# Altium integrated library Panasonic Relays Power Relays (Over 2A).IntLib: 286 symbols (part 3 of 8)
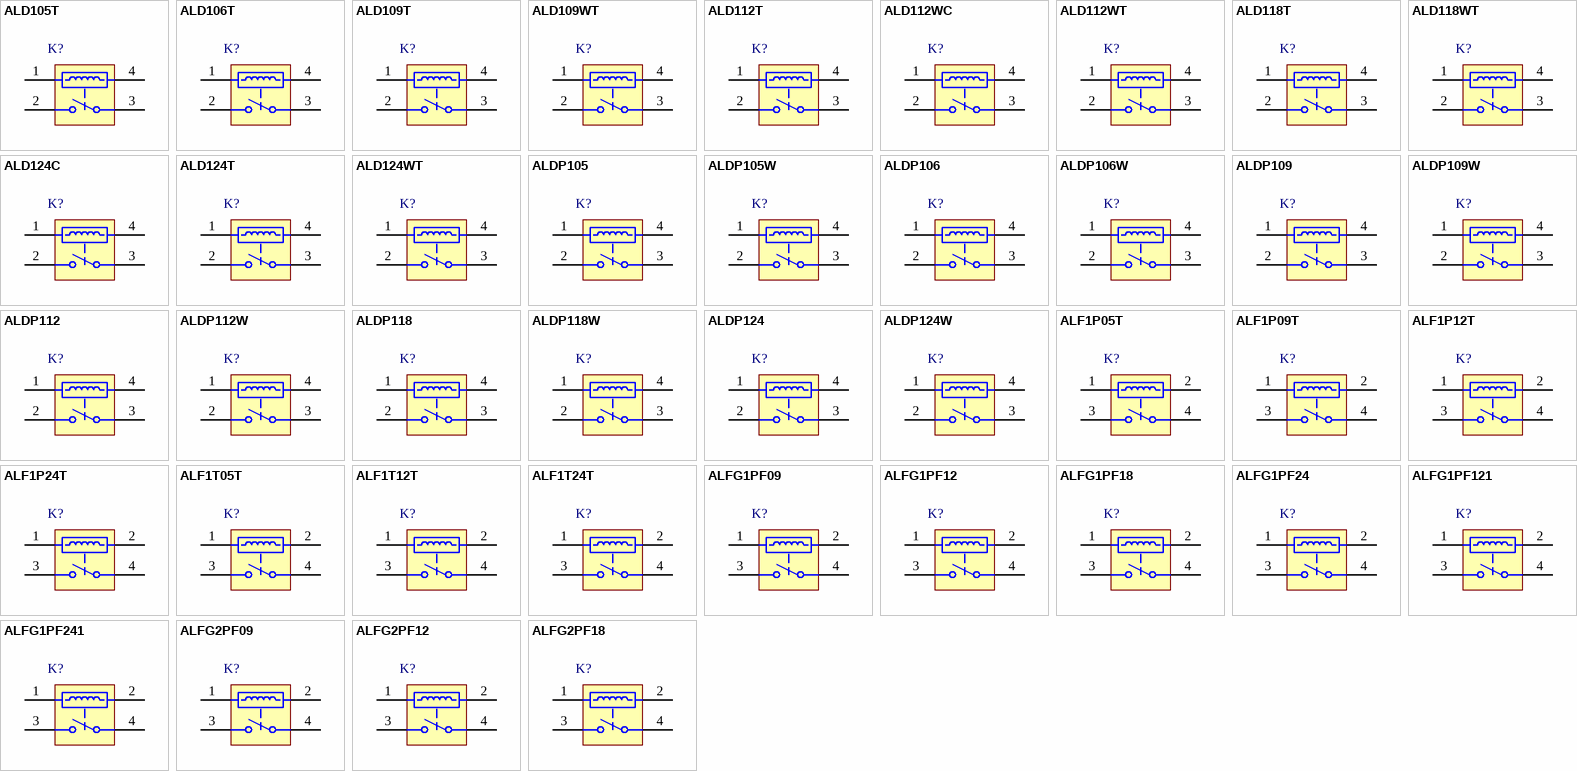
[diagram p9: symbols ALD105T to ALFG2PF18]

## ALFG2PF18
designator K?
LF-G Relays, 18 V Coil Voltage, 1400 mW Nominal Operating Power, -40 to 85 degC, 4-Pin LF-G, Carton, Case, RoHS; Manufacturer: Panasonic; PartNumber: ALFG2PF18; Coil Voltage: 18 V; Electrical Life: 3x10^4; Max Switching Current: 31 A AC; Max Switching Voltage: 250 V AC; Mechanical Life(Min.operation): 1x10^6; Nominal Operating Power: 1400 mW; Pb-Free: True; DatasheetVersion: 201402-T; PackageVersion: ASCTB196E, 02/2014; PackageReference: LF-G-4-3010x1570x2330; PackageDescription: 4-Pin Through Hole Terminal Package, Body 30.1 x 15.7 mm; Supplier 1: Mouser; Supplier Part Number 1: 769-ALFG2PF18; Supplier 2: Digi-Key; Supplier Part Number 2: 255-2639-ND; Packing: Carton, Case; RoHS: True; Series: LF-G Relays; Mounting Technology: Through Hole; ComponentLink1Description: Manufacturer URL; ComponentLink1URL: http://www3.panasonic.biz/ac/ae/index.jsp; ComponentLink2Description: Datasheet; ComponentLink2URL: http://www3.panasonic.biz/ac/e_download/control/relay/power/catalog/mech_eng_lfg.pdf?f_cd=300272; ComponentLink3Description: Package Specification; ComponentLink3URL: http://www3.panasonic.biz/ac/e_download/control/relay/power/catalog/mech_eng_lfg.pdf?f_cd=300272
footprint PNSC-LF-G-4-3010x1570x2330_V (LF-G, 4-Leads, Body 30.1x15.7mm)
pins: 1, 2, 3 NO, 4 COM

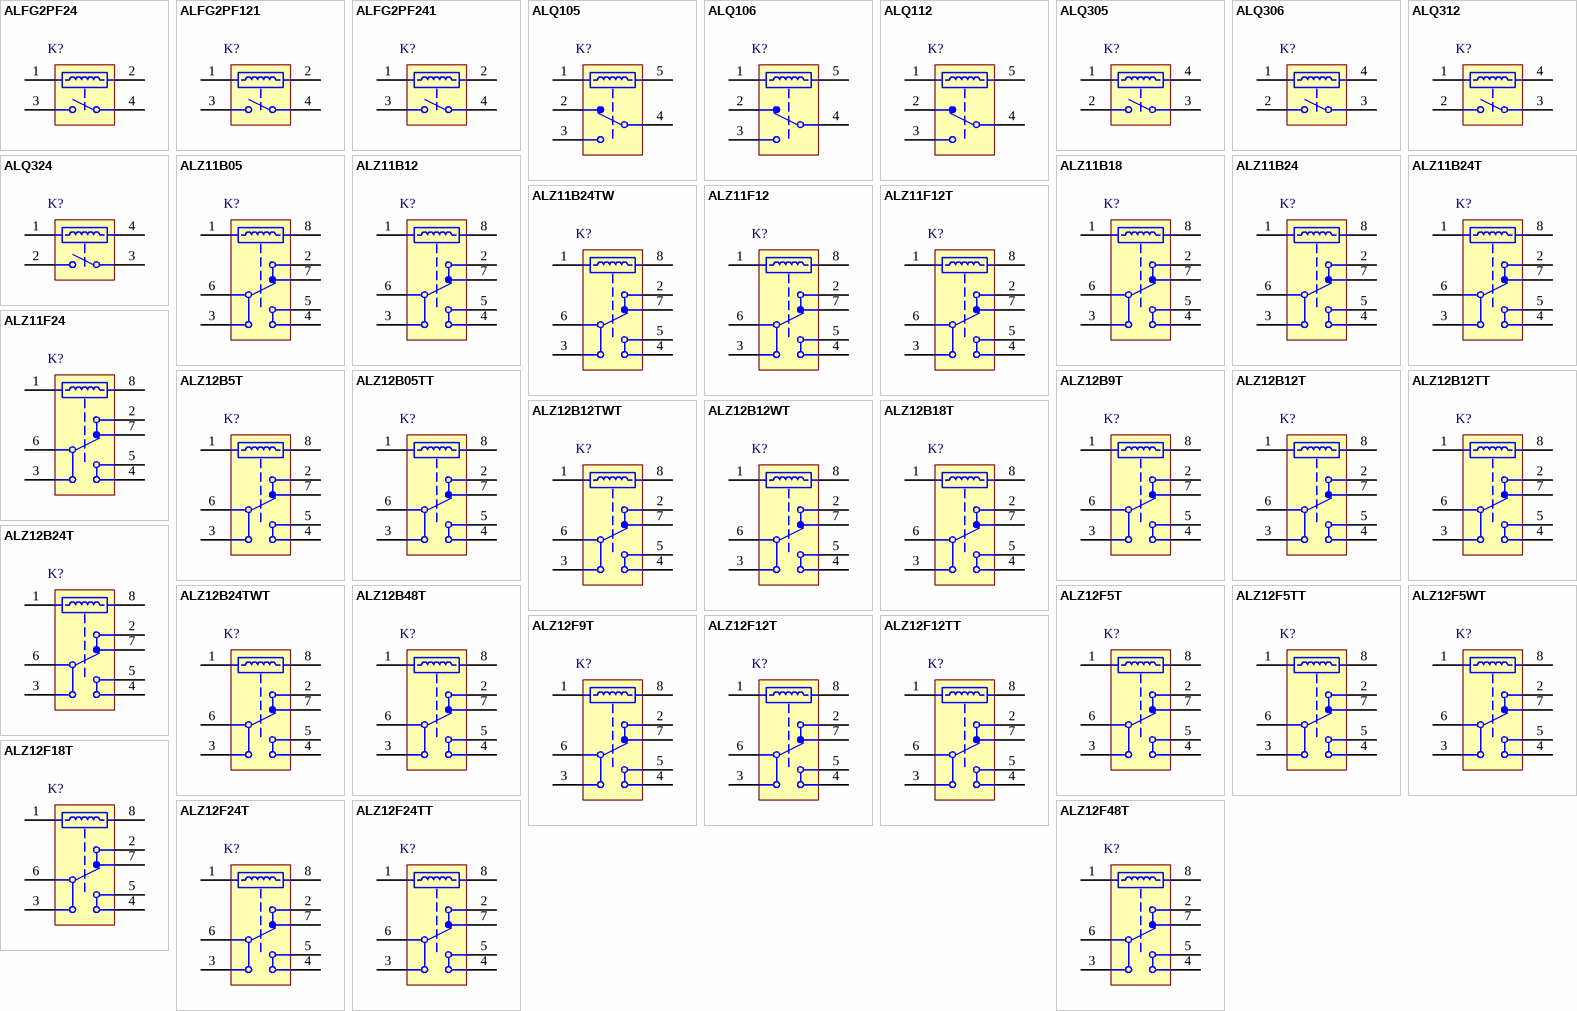
[diagram p2: symbols ALFG2PF24 to ALZ12F48T]

## ALFG2PF24
designator K?
LF-G Relays, 24 V Coil Voltage, 1400 mW Nominal Operating Power, -40 to 85 degC, 4-Pin LF-G, Carton, Case, RoHS; Manufacturer: Panasonic; PartNumber: ALFG2PF24; Coil Voltage: 24 V; Electrical Life: 3x10^4; Max Switching Current: 31 A AC; Max Switching Voltage: 250 V AC; Mechanical Life(Min.operation): 1x10^6; Nominal Operating Power: 1400 mW; Pb-Free: True; DatasheetVersion: 201402-T; PackageVersion: ASCTB196E, 02/2014; PackageReference: LF-G-4-3010x1570x2330; PackageDescription: 4-Pin Through Hole Terminal Package, Body 30.1 x 15.7 mm; Supplier 1: Mouser; Supplier Part Number 1: 769-ALFG2PF24; Supplier 2: Digi-Key; Supplier Part Number 2: 255-2640-ND; Packing: Carton, Case; RoHS: True; Series: LF-G Relays; Mounting Technology: Through Hole; ComponentLink1Description: Manufacturer URL; ComponentLink1URL: http://www3.panasonic.biz/ac/ae/index.jsp; ComponentLink2Description: Datasheet; ComponentLink2URL: http://www3.panasonic.biz/ac/e_download/control/relay/power/catalog/mech_eng_lfg.pdf?f_cd=300272; ComponentLink3Description: Package Specification; ComponentLink3URL: http://www3.panasonic.biz/ac/e_download/control/relay/power/catalog/mech_eng_lfg.pdf?f_cd=300272
footprint PNSC-LF-G-4-3010x1570x2330_V (LF-G, 4-Leads, Body 30.1x15.7mm)
pins: 1, 2, 3 NO, 4 COM

## ALFG2PF121
designator K?
LF-G Relays, 12 V Coil Voltage, 1400 mW Nominal Operating Power, -40 to 85 degC, 4-Pin LF-G, Carton, Case, RoHS; Manufacturer: Panasonic; PartNumber: ALFG2PF121; Coil Voltage: 12 V; Electrical Life: 3x10^4; Max Switching Current: 33 A AC; Max Switching Voltage: 250 V AC; Mechanical Life(Min.operation): 5x10^5; Nominal Operating Power: 1400 mW; Pb-Free: True; DatasheetVersion: 201402-T; PackageVersion: ASCTB196E, 02/2014; PackageReference: LF-G-4-3010x1570x2330; PackageDescription: 4-Pin Through Hole Terminal Package, Body 30.1 x 15.7 mm; Supplier 1: Mouser; Supplier Part Number 1: 769-ALFG2PF121; Supplier 2: Digi-Key; Supplier Part Number 2: ALFG2PF121-ND; Packing: Carton, Case; RoHS: True; Series: LF-G Relays; Mounting Technology: Through Hole; ComponentLink1Description: Manufacturer URL; ComponentLink1URL: http://www3.panasonic.biz/ac/ae/index.jsp; ComponentLink2Description: Datasheet; ComponentLink2URL: http://www3.panasonic.biz/ac/e_download/control/relay/power/catalog/mech_eng_lfg.pdf?f_cd=300272; ComponentLink3Description: Package Specification; ComponentLink3URL: http://www3.panasonic.biz/ac/e_download/control/relay/power/catalog/mech_eng_lfg.pdf?f_cd=300272
footprint PNSC-LF-G-4-3010x1570x2330_V (LF-G, 4-Leads, Body 30.1x15.7mm)
pins: 1, 2, 3 NO, 4 COM

## ALFG2PF241
designator K?
LF-G Relays, 24 V Coil Voltage, 1400 mW Nominal Operating Power, -40 to 85 degC, 4-Pin LF-G, Carton, Case, RoHS; Manufacturer: Panasonic; PartNumber: ALFG2PF241; Coil Voltage: 24 V; Electrical Life: 3x10^4; Max Switching Current: 33 A AC; Max Switching Voltage: 250 V AC; Mechanical Life(Min.operation): 5x10^5; Nominal Operating Power: 1400 mW; Pb-Free: True; DatasheetVersion: 201402-T; PackageVersion: ASCTB196E, 02/2014; PackageReference: LF-G-4-3010x1570x2330; PackageDescription: 4-Pin Through Hole Terminal Package, Body 30.1 x 15.7 mm; Supplier 1: Mouser; Supplier Part Number 1: 769-ALFG2PF241; Packing: Carton, Case; RoHS: True; Series: LF-G Relays; Mounting Technology: Through Hole; ComponentLink1Description: Manufacturer URL; ComponentLink1URL: http://www3.panasonic.biz/ac/ae/index.jsp; ComponentLink2Description: Datasheet; ComponentLink2URL: http://www3.panasonic.biz/ac/e_download/control/relay/power/catalog/mech_eng_lfg.pdf?f_cd=300272; ComponentLink3Description: Package Specification; ComponentLink3URL: http://www3.panasonic.biz/ac/e_download/control/relay/power/catalog/mech_eng_lfg.pdf?f_cd=300272
footprint PNSC-LF-G-4-3010x1570x2330_V (LF-G, 4-Leads, Body 30.1x15.7mm)
pins: 1, 2, 3 NO, 4 COM

## ALQ105
designator K?
LQ Relays, 5 V Coil Voltage, 400 mW Nominal Operating Power, -40 to 85 degC, 5-Pin LQ, Carton, Case, RoHS; Manufacturer: Panasonic; PartNumber: ALQ105; Coil Voltage: 5 V; Electrical Life: 5x10^4; Max Switching Current: 10 A (N.O.), 3 A (N.C.); Max Switching Voltage: 250 V AC; Mechanical Life(Min.operation): 1x10^7; Nominal Operating Power: 400 mW; Pb-Free: True; DatasheetVersion: 201410-T; PackageVersion: ASCTB92E, 10/2014; PackageReference: LQ-5-2000x1000x1600; PackageDescription: 5-Pin Through Hole Terminal Package, Body 20 x 10 mm; Supplier 1: Mouser; Supplier Part Number 1: 769-ALQ105; Supplier 2: Digi-Key; Supplier Part Number 2: 255-3565-ND; Packing: Carton, Case; RoHS: True; Series: LQ Relays; Mounting Technology: Through Hole; ComponentLink1Description: Manufacturer URL; ComponentLink1URL: http://www3.panasonic.biz/ac/ae/index.jsp; ComponentLink2Description: Datasheet; ComponentLink2URL: http://www3.panasonic.biz/ac/e_download/control/relay/power/catalog/mech_eng_lq.pdf?f_cd=401220; ComponentLink3Description: Package Specification; ComponentLink3URL: http://www3.panasonic.biz/ac/e_download/control/relay/power/catalog/mech_eng_lq.pdf?f_cd=401220
footprint PNSC-LQ-5-2000x1000x1600_V (LQ, 5-Leads, Body 20x10mm)
pins: 1, 2 NC, 3 NO, 4 COM, 5

## ALQ106
designator K?
LQ Relays, 6 V Coil Voltage, 400 mW Nominal Operating Power, -40 to 85 degC, 5-Pin LQ, Carton, Case, RoHS; Manufacturer: Panasonic; PartNumber: ALQ106; Coil Voltage: 6 V; Electrical Life: 5x10^4; Max Switching Current: 10 A (N.O.), 3 A (N.C.); Max Switching Voltage: 250 V AC; Mechanical Life(Min.operation): 1x10^7; Nominal Operating Power: 400 mW; Pb-Free: True; DatasheetVersion: 201410-T; PackageVersion: ASCTB92E, 10/2014; PackageReference: LQ-5-2000x1000x1600; PackageDescription: 5-Pin Through Hole Terminal Package, Body 20 x 10 mm; Supplier 1: Mouser; Supplier Part Number 1: 769-ALQ106; Supplier 2: Digi-Key; Supplier Part Number 2: 255-3564-ND; Packing: Carton, Case; RoHS: True; Series: LQ Relays; Mounting Technology: Through Hole; ComponentLink1Description: Manufacturer URL; ComponentLink1URL: http://www3.panasonic.biz/ac/ae/index.jsp; ComponentLink2Description: Datasheet; ComponentLink2URL: http://www3.panasonic.biz/ac/e_download/control/relay/power/catalog/mech_eng_lq.pdf?f_cd=401220; ComponentLink3Description: Package Specification; ComponentLink3URL: http://www3.panasonic.biz/ac/e_download/control/relay/power/catalog/mech_eng_lq.pdf?f_cd=401220
footprint PNSC-LQ-5-2000x1000x1600_V (LQ, 5-Leads, Body 20x10mm)
pins: 1, 2 NC, 3 NO, 4 COM, 5

## ALQ112
designator K?
LQ Relays, 12 V Coil Voltage, 400 mW Nominal Operating Power, -40 to 85 degC, 5-Pin LQ, Carton, Case, RoHS; Manufacturer: Panasonic; PartNumber: ALQ112; Coil Voltage: 12 V; Electrical Life: 5x10^4; Max Switching Current: 10 A (N.O.), 3 A (N.C.); Max Switching Voltage: 250 V AC; Mechanical Life(Min.operation): 1x10^7; Nominal Operating Power: 400 mW; Pb-Free: True; DatasheetVersion: 201410-T; PackageVersion: ASCTB92E, 10/2014; PackageReference: LQ-5-2000x1000x1600; PackageDescription: 5-Pin Through Hole Terminal Package, Body 20 x 10 mm; Supplier 1: Mouser; Supplier Part Number 1: 769-ALQ112; Supplier 2: Digi-Key; Supplier Part Number 2: 255-3562-ND; Packing: Carton, Case; RoHS: True; Series: LQ Relays; Mounting Technology: Through Hole; ComponentLink1Description: Manufacturer URL; ComponentLink1URL: http://www3.panasonic.biz/ac/ae/index.jsp; ComponentLink2Description: Datasheet; ComponentLink2URL: http://www3.panasonic.biz/ac/e_download/control/relay/power/catalog/mech_eng_lq.pdf?f_cd=401220; ComponentLink3Description: Package Specification; ComponentLink3URL: http://www3.panasonic.biz/ac/e_download/control/relay/power/catalog/mech_eng_lq.pdf?f_cd=401220
footprint PNSC-LQ-5-2000x1000x1600_V (LQ, 5-Leads, Body 20x10mm)
pins: 1, 2 NC, 3 NO, 4 COM, 5

## ALQ305
designator K?
LQ Relays, 5 V Coil Voltage, 200 mW Nominal Operating Power, -40 to 85 degC, 4-Pin LQ, Carton, Case, RoHS; Manufacturer: Panasonic; PartNumber: ALQ305; Coil Voltage: 5 V; Electrical Life: 5x10^4; Max Switching Current: 10 A (N.O.), 3 A (N.C.); Max Switching Voltage: 250 V AC; Mechanical Life(Min.operation): 1x10^7; Nominal Operating Power: 200 mW; Pb-Free: True; DatasheetVersion: 201410-T; PackageVersion: ASCTB92E, 10/2014; PackageReference: LQ-4-2000x1000x1600; PackageDescription: 4-Pin Through Hole Terminal Package, Body 20 x 10 mm; Supplier 1: Mouser; Supplier Part Number 1: 769-ALQ305; Supplier 2: Digi-Key; Supplier Part Number 2: 255-3559-ND; Packing: Carton, Case; RoHS: True; Series: LQ Relays; Mounting Technology: Through Hole; ComponentLink1Description: Manufacturer URL; ComponentLink1URL: http://www3.panasonic.biz/ac/ae/index.jsp; ComponentLink2Description: Datasheet; ComponentLink2URL: http://www3.panasonic.biz/ac/e_download/control/relay/power/catalog/mech_eng_lq.pdf?f_cd=401220; ComponentLink3Description: Package Specification; ComponentLink3URL: http://www3.panasonic.biz/ac/e_download/control/relay/power/catalog/mech_eng_lq.pdf?f_cd=401220
footprint PNSC-LQ-4-2000x1000x1600_V (LQ, 4-Leads, Body 20x10mm)
pins: 1, 2 NO, 3 COM, 4

## ALQ306
designator K?
LQ Relays, 6 V Coil Voltage, 200 mW Nominal Operating Power, -40 to 85 degC, 4-Pin LQ, Carton, Case, RoHS; Manufacturer: Panasonic; PartNumber: ALQ306; Coil Voltage: 6 V; Electrical Life: 5x10^4; Max Switching Current: 10 A (N.O.), 3 A (N.C.); Max Switching Voltage: 250 V AC; Mechanical Life(Min.operation): 1x10^7; Nominal Operating Power: 200 mW; Pb-Free: True; DatasheetVersion: 201410-T; PackageVersion: ASCTB92E, 10/2014; PackageReference: LQ-4-2000x1000x1600; PackageDescription: 4-Pin Through Hole Terminal Package, Body 20 x 10 mm; Supplier 1: Mouser; Supplier Part Number 1: 769-ALQ306; Supplier 2: Digi-Key; Supplier Part Number 2: 255-3558-ND; Packing: Carton, Case; RoHS: True; Series: LQ Relays; Mounting Technology: Through Hole; ComponentLink1Description: Manufacturer URL; ComponentLink1URL: http://www3.panasonic.biz/ac/ae/index.jsp; ComponentLink2Description: Datasheet; ComponentLink2URL: http://www3.panasonic.biz/ac/e_download/control/relay/power/catalog/mech_eng_lq.pdf?f_cd=401220; ComponentLink3Description: Package Specification; ComponentLink3URL: http://www3.panasonic.biz/ac/e_download/control/relay/power/catalog/mech_eng_lq.pdf?f_cd=401220
footprint PNSC-LQ-4-2000x1000x1600_V (LQ, 4-Leads, Body 20x10mm)
pins: 1, 2 NO, 3 COM, 4

## ALQ312
designator K?
LQ Relays, 12 V Coil Voltage, 200 mW Nominal Operating Power, -40 to 85 degC, 4-Pin LQ, Carton, Case, RoHS; Manufacturer: Panasonic; PartNumber: ALQ312; Coil Voltage: 12 V; Electrical Life: 5x10^4; Max Switching Current: 10 A (N.O.), 3 A (N.C.); Max Switching Voltage: 250 V AC; Mechanical Life(Min.operation): 1x10^7; Nominal Operating Power: 200 mW; Pb-Free: True; DatasheetVersion: 201410-T; PackageVersion: ASCTB92E, 10/2014; PackageReference: LQ-4-2000x1000x1600; PackageDescription: 4-Pin Through Hole Terminal Package, Body 20 x 10 mm; Supplier 1: Mouser; Supplier Part Number 1: 769-ALQ312; Supplier 2: Digi-Key; Supplier Part Number 2: 255-3556-ND; Packing: Carton, Case; RoHS: True; Series: LQ Relays; Mounting Technology: Through Hole; ComponentLink1Description: Manufacturer URL; ComponentLink1URL: http://www3.panasonic.biz/ac/ae/index.jsp; ComponentLink2Description: Datasheet; ComponentLink2URL: http://www3.panasonic.biz/ac/e_download/control/relay/power/catalog/mech_eng_lq.pdf?f_cd=401220; ComponentLink3Description: Package Specification; ComponentLink3URL: http://www3.panasonic.biz/ac/e_download/control/relay/power/catalog/mech_eng_lq.pdf?f_cd=401220
footprint PNSC-LQ-4-2000x1000x1600_V (LQ, 4-Leads, Body 20x10mm)
pins: 1, 2 NO, 3 COM, 4

## ALQ324
designator K?
LQ Relays, 24 V Coil Voltage, 200 mW Nominal Operating Power, -40 to 85 degC, 4-Pin LQ, Carton, Case, RoHS; Manufacturer: Panasonic; PartNumber: ALQ324; Coil Voltage: 24 V; Electrical Life: 5x10^4; Max Switching Current: 10 A (N.O.), 3 A (N.C.); Max Switching Voltage: 250 V AC; Mechanical Life(Min.operation): 1x10^7; Nominal Operating Power: 200 mW; Pb-Free: True; DatasheetVersion: 201410-T; PackageVersion: ASCTB92E, 10/2014; PackageReference: LQ-4-2000x1000x1600; PackageDescription: 4-Pin Through Hole Terminal Package, Body 20 x 10 mm; Supplier 1: Mouser; Supplier Part Number 1: 769-ALQ324; Supplier 2: Digi-Key; Supplier Part Number 2: 255-3554-ND; Packing: Carton, Case; RoHS: True; Series: LQ Relays; Mounting Technology: Through Hole; ComponentLink1Description: Manufacturer URL; ComponentLink1URL: http://www3.panasonic.biz/ac/ae/index.jsp; ComponentLink2Description: Datasheet; ComponentLink2URL: http://www3.panasonic.biz/ac/e_download/control/relay/power/catalog/mech_eng_lq.pdf?f_cd=401220; ComponentLink3Description: Package Specification; ComponentLink3URL: http://www3.panasonic.biz/ac/e_download/control/relay/power/catalog/mech_eng_lq.pdf?f_cd=401220
footprint PNSC-LQ-4-2000x1000x1600_V (LQ, 4-Leads, Body 20x10mm)
pins: 1, 2 NO, 3 COM, 4

## ALZ11B05
designator K?
LZ Relays, 5 V Coil Voltage, 400 mW Nominal Operating Power, -40 to 85 degC, 8-Pin LZ, Carton, Case, RoHS; Manufacturer: Panasonic; PartNumber: ALZ11B05; Coil Voltage: 5 V; Electrical Life: 1x10^5 (N.O.), 5x10^4 (N.C.); Max Switching Current: 16 A; Max Switching Voltage: 440 V AC; Mechanical Life(Min.operation): 1x10^7; Nominal Operating Power: 400 mW; Pb-Free: True; DatasheetVersion: 201402-T; PackageVersion: ASCTB203E, 02/2014; PackageReference: LZ-8-2880x1250x1570; PackageDescription: 8-Pin Through Hole Terminal Package, Body 28.8 x 12.5 mm; Supplier 1: Mouser; Supplier Part Number 1: 769-ALZ11B05; Supplier 2: Digi-Key; Supplier Part Number 2: 255-2971-ND; Packing: Carton, Case; RoHS: True; Series: LZ Relays; Mounting Technology: Through Hole; ComponentLink1Description: Manufacturer URL; ComponentLink1URL: http://www3.panasonic.biz/ac/ae/index.jsp; ComponentLink2Description: Datasheet; ComponentLink2URL: http://www3.panasonic.biz/ac/e_download/control/relay/power/catalog/mech_eng_lz.pdf?f_cd=300372; ComponentLink3Description: Package Specification; ComponentLink3URL: http://www3.panasonic.biz/ac/e_download/control/relay/power/catalog/mech_eng_lz.pdf?f_cd=300372
footprint PNSC-LZ-8-2880x1250x1570_V (LZ, 8-Leads, Body 28.8x12.5mm)
pins: 1, 2, 3, 4, 5, 6, 7, 8

## ALZ11B12
designator K?
LZ Relays, 12 V Coil Voltage, 400 mW Nominal Operating Power, -40 to 85 degC, 8-Pin LZ, Carton, Case, RoHS; Manufacturer: Panasonic; PartNumber: ALZ11B12; Coil Voltage: 12 V; Electrical Life: 1x10^5 (N.O.), 5x10^4 (N.C.); Max Switching Current: 16 A; Max Switching Voltage: 440 V AC; Mechanical Life(Min.operation): 1x10^7; Nominal Operating Power: 400 mW; Pb-Free: True; DatasheetVersion: 201402-T; PackageVersion: ASCTB203E, 02/2014; PackageReference: LZ-8-2880x1250x1570; PackageDescription: 8-Pin Through Hole Terminal Package, Body 28.8 x 12.5 mm; Supplier 1: Mouser; Supplier Part Number 1: 769-ALZ11B12; Supplier 2: Digi-Key; Supplier Part Number 2: ALZ11B12-ND; Packing: Carton, Case; RoHS: True; Series: LZ Relays; Mounting Technology: Through Hole; ComponentLink1Description: Manufacturer URL; ComponentLink1URL: http://www3.panasonic.biz/ac/ae/index.jsp; ComponentLink2Description: Datasheet; ComponentLink2URL: http://www3.panasonic.biz/ac/e_download/control/relay/power/catalog/mech_eng_lz.pdf?f_cd=300372; ComponentLink3Description: Package Specification; ComponentLink3URL: http://www3.panasonic.biz/ac/e_download/control/relay/power/catalog/mech_eng_lz.pdf?f_cd=300372
footprint PNSC-LZ-8-2880x1250x1570_V (LZ, 8-Leads, Body 28.8x12.5mm)
pins: 1, 2, 3, 4, 5, 6, 7, 8

## ALZ11B18
designator K?
LZ Relays, 18 V Coil Voltage, 400 mW Nominal Operating Power, -40 to 85 degC, 8-Pin LZ, Carton, Case, RoHS; Manufacturer: Panasonic; PartNumber: ALZ11B18; Coil Voltage: 18 V; Electrical Life: 1x10^5 (N.O.), 5x10^4 (N.C.); Max Switching Current: 16 A; Max Switching Voltage: 440 V AC; Mechanical Life(Min.operation): 1x10^7; Nominal Operating Power: 400 mW; Pb-Free: True; DatasheetVersion: 201402-T; PackageVersion: ASCTB203E, 02/2014; PackageReference: LZ-8-2880x1250x1570; PackageDescription: 8-Pin Through Hole Terminal Package, Body 28.8 x 12.5 mm; Supplier 1: Mouser; Supplier Part Number 1: 769-ALZ11B18; Supplier 2: Digi-Key; Supplier Part Number 2: ALZ11B18-ND; Packing: Carton, Case; RoHS: True; Series: LZ Relays; Mounting Technology: Through Hole; ComponentLink1Description: Manufacturer URL; ComponentLink1URL: http://www3.panasonic.biz/ac/ae/index.jsp; ComponentLink2Description: Datasheet; ComponentLink2URL: http://www3.panasonic.biz/ac/e_download/control/relay/power/catalog/mech_eng_lz.pdf?f_cd=300372; ComponentLink3Description: Package Specification; ComponentLink3URL: http://www3.panasonic.biz/ac/e_download/control/relay/power/catalog/mech_eng_lz.pdf?f_cd=300372
footprint PNSC-LZ-8-2880x1250x1570_V (LZ, 8-Leads, Body 28.8x12.5mm)
pins: 1, 2, 3, 4, 5, 6, 7, 8

## ALZ11B24
designator K?
LZ Relays, 24 V Coil Voltage, 400 mW Nominal Operating Power, -40 to 85 degC, 8-Pin LZ, Carton, Case, RoHS; Manufacturer: Panasonic; PartNumber: ALZ11B24; Coil Voltage: 24 V; Electrical Life: 1x10^5 (N.O.), 5x10^4 (N.C.); Max Switching Current: 16 A; Max Switching Voltage: 440 V AC; Mechanical Life(Min.operation): 1x10^7; Nominal Operating Power: 400 mW; Pb-Free: True; DatasheetVersion: 201402-T; PackageVersion: ASCTB203E, 02/2014; PackageReference: LZ-8-2880x1250x1570; PackageDescription: 8-Pin Through Hole Terminal Package, Body 28.8 x 12.5 mm; Supplier 1: Mouser; Supplier Part Number 1: 769-ALZ11B24; Supplier 2: Digi-Key; Supplier Part Number 2: ALZ11B24-ND; Packing: Carton, Case; RoHS: True; Series: LZ Relays; Mounting Technology: Through Hole; ComponentLink1Description: Manufacturer URL; ComponentLink1URL: http://www3.panasonic.biz/ac/ae/index.jsp; ComponentLink2Description: Datasheet; ComponentLink2URL: http://www3.panasonic.biz/ac/e_download/control/relay/power/catalog/mech_eng_lz.pdf?f_cd=300372; ComponentLink3Description: Package Specification; ComponentLink3URL: http://www3.panasonic.biz/ac/e_download/control/relay/power/catalog/mech_eng_lz.pdf?f_cd=300372
footprint PNSC-LZ-8-2880x1250x1570_V (LZ, 8-Leads, Body 28.8x12.5mm)
pins: 1, 2, 3, 4, 5, 6, 7, 8

## ALZ11B24T
designator K?
LZ Relays, 24 V Coil Voltage, 400 mW Nominal Operating Power, -40 to 85 degC, 8-Pin LZ, Carton, Case, RoHS; Manufacturer: Panasonic; PartNumber: ALZ11B24T; Coil Voltage: 24 V; Electrical Life: 1x10^5 (N.O.), 5x10^4 (N.C.); Max Switching Current: 16 A; Max Switching Voltage: 440 V AC; Mechanical Life(Min.operation): 1x10^7; Nominal Operating Power: 400 mW; Pb-Free: True; DatasheetVersion: 201402-T; PackageVersion: ASCTB203E, 02/2014; PackageReference: LZ-8-2880x1250x1570; PackageDescription: 8-Pin Through Hole Terminal Package, Body 28.8 x 12.5 mm; Packing: Carton, Case; RoHS: True; Series: LZ Relays; Mounting Technology: Through Hole; ComponentLink1Description: Manufacturer URL; ComponentLink1URL: http://www3.panasonic.biz/ac/ae/index.jsp; ComponentLink2Description: Datasheet; ComponentLink2URL: http://www3.panasonic.biz/ac/e_download/control/relay/power/catalog/mech_eng_lz.pdf?f_cd=300372; ComponentLink3Description: Package Specification; ComponentLink3URL: http://www3.panasonic.biz/ac/e_download/control/relay/power/catalog/mech_eng_lz.pdf?f_cd=300372
footprint PNSC-LZ-8-2880x1250x1570_V (LZ, 8-Leads, Body 28.8x12.5mm)
pins: 1, 2, 3, 4, 5, 6, 7, 8

## ALZ11B24TW
designator K?
LZ Relays, 24 V Coil Voltage, 400 mW Nominal Operating Power, -40 to 85 degC, 8-Pin LZ, Carton, Case, RoHS; Manufacturer: Panasonic; PartNumber: ALZ11B24TW; Coil Voltage: 24 V; Electrical Life: 1x10^5 (N.O.), 5x10^4 (N.C.); Max Switching Current: 16 A; Max Switching Voltage: 440 V AC; Mechanical Life(Min.operation): 1x10^7; Nominal Operating Power: 400 mW; Pb-Free: True; DatasheetVersion: 201402-T; PackageVersion: ASCTB203E, 02/2014; PackageReference: LZ-8-2880x1250x1570; PackageDescription: 8-Pin Through Hole Terminal Package, Body 28.8 x 12.5 mm; Packing: Carton, Case; RoHS: True; Series: LZ Relays; Mounting Technology: Through Hole; ComponentLink1Description: Manufacturer URL; ComponentLink1URL: http://www3.panasonic.biz/ac/ae/index.jsp; ComponentLink2Description: Datasheet; ComponentLink2URL: http://www3.panasonic.biz/ac/e_download/control/relay/power/catalog/mech_eng_lz.pdf?f_cd=300372; ComponentLink3Description: Package Specification; ComponentLink3URL: http://www3.panasonic.biz/ac/e_download/control/relay/power/catalog/mech_eng_lz.pdf?f_cd=300372
footprint PNSC-LZ-8-2880x1250x1570_V (LZ, 8-Leads, Body 28.8x12.5mm)
pins: 1, 2, 3, 4, 5, 6, 7, 8

## ALZ11F12
designator K?
LZ Relays, 12 V Coil Voltage, 400 mW Nominal Operating Power, -40 to 85 degC, 8-Pin LZ, Carton, Case, RoHS; Manufacturer: Panasonic; PartNumber: ALZ11F12; Coil Voltage: 12 V; Electrical Life: 1x10^5 (N.O.), 5x10^4 (N.C.); Max Switching Current: 16 A; Max Switching Voltage: 440 V AC; Mechanical Life(Min.operation): 1x10^7; Nominal Operating Power: 400 mW; Pb-Free: True; DatasheetVersion: 201402-T; PackageVersion: ASCTB203E, 02/2014; PackageReference: LZ-8-2880x1250x1570; PackageDescription: 8-Pin Through Hole Terminal Package, Body 28.8 x 12.5 mm; Supplier 1: Mouser; Supplier Part Number 1: 769-ALZ11F12; Supplier 2: Digi-Key; Supplier Part Number 2: 255-2641-ND; Packing: Carton, Case; RoHS: True; Series: LZ Relays; Mounting Technology: Through Hole; ComponentLink1Description: Manufacturer URL; ComponentLink1URL: http://www3.panasonic.biz/ac/ae/index.jsp; ComponentLink2Description: Datasheet; ComponentLink2URL: http://www3.panasonic.biz/ac/e_download/control/relay/power/catalog/mech_eng_lz.pdf?f_cd=300372; ComponentLink3Description: Package Specification; ComponentLink3URL: http://www3.panasonic.biz/ac/e_download/control/relay/power/catalog/mech_eng_lz.pdf?f_cd=300372
footprint PNSC-LZ-8-2880x1250x1570_V (LZ, 8-Leads, Body 28.8x12.5mm)
pins: 1, 2, 3, 4, 5, 6, 7, 8

## ALZ11F12T
designator K?
LZ Relays, 12 V Coil Voltage, 400 mW Nominal Operating Power, -40 to 85 degC, 8-Pin LZ, Carton, Case, RoHS; Manufacturer: Panasonic; PartNumber: ALZ11F12T; Coil Voltage: 12 V; Electrical Life: 1x10^5 (N.O.), 5x10^4 (N.C.); Max Switching Current: 16 A; Max Switching Voltage: 440 V AC; Mechanical Life(Min.operation): 1x10^7; Nominal Operating Power: 400 mW; Pb-Free: True; DatasheetVersion: 201402-T; PackageVersion: ASCTB203E, 02/2014; PackageReference: LZ-8-2880x1250x1570; PackageDescription: 8-Pin Through Hole Terminal Package, Body 28.8 x 12.5 mm; Packing: Carton, Case; RoHS: True; Series: LZ Relays; Mounting Technology: Through Hole; ComponentLink1Description: Manufacturer URL; ComponentLink1URL: http://www3.panasonic.biz/ac/ae/index.jsp; ComponentLink2Description: Datasheet; ComponentLink2URL: http://www3.panasonic.biz/ac/e_download/control/relay/power/catalog/mech_eng_lz.pdf?f_cd=300372; ComponentLink3Description: Package Specification; ComponentLink3URL: http://www3.panasonic.biz/ac/e_download/control/relay/power/catalog/mech_eng_lz.pdf?f_cd=300372
footprint PNSC-LZ-8-2880x1250x1570_V (LZ, 8-Leads, Body 28.8x12.5mm)
pins: 1, 2, 3, 4, 5, 6, 7, 8

## ALZ11F24
designator K?
LZ Relays, 24 V Coil Voltage, 400 mW Nominal Operating Power, -40 to 85 degC, 8-Pin LZ, Carton, Case, RoHS; Manufacturer: Panasonic; PartNumber: ALZ11F24; Coil Voltage: 24 V; Electrical Life: 1x10^5 (N.O.), 5x10^4 (N.C.); Max Switching Current: 16 A; Max Switching Voltage: 440 V AC; Mechanical Life(Min.operation): 1x10^7; Nominal Operating Power: 400 mW; Pb-Free: True; DatasheetVersion: 201402-T; PackageVersion: ASCTB203E, 02/2014; PackageReference: LZ-8-2880x1250x1570; PackageDescription: 8-Pin Through Hole Terminal Package, Body 28.8 x 12.5 mm; Supplier 1: Mouser; Supplier Part Number 1: 769-ALZ11F24; Supplier 2: Digi-Key; Supplier Part Number 2: ALZ11F24-ND; Packing: Carton, Case; RoHS: True; Series: LZ Relays; Mounting Technology: Through Hole; ComponentLink1Description: Manufacturer URL; ComponentLink1URL: http://www3.panasonic.biz/ac/ae/index.jsp; ComponentLink2Description: Datasheet; ComponentLink2URL: http://www3.panasonic.biz/ac/e_download/control/relay/power/catalog/mech_eng_lz.pdf?f_cd=300372; ComponentLink3Description: Package Specification; ComponentLink3URL: http://www3.panasonic.biz/ac/e_download/control/relay/power/catalog/mech_eng_lz.pdf?f_cd=300372
footprint PNSC-LZ-8-2880x1250x1570_V (LZ, 8-Leads, Body 28.8x12.5mm)
pins: 1, 2, 3, 4, 5, 6, 7, 8

## ALZ12B5T
designator K?
LZ Relays, 5 V Coil Voltage, 400 mW Nominal Operating Power, -40 to 85 degC, 8-Pin LZ, Carton, Case, RoHS; Manufacturer: Panasonic; PartNumber: ALZ12B5T; Coil Voltage: 5 V; Electrical Life: 1x10^5 (N.O.), 5x10^4 (N.C.); Max Switching Current: 16 A; Max Switching Voltage: 440 V AC; Mechanical Life(Min.operation): 1x10^7; Nominal Operating Power: 400 mW; Pb-Free: True; DatasheetVersion: 201402-T; PackageVersion: ASCTB203E, 02/2014; PackageReference: LZ-8-2880x1250x1570; PackageDescription: 8-Pin Through Hole Terminal Package, Body 28.8 x 12.5 mm; Supplier 1: Mouser; Supplier Part Number 1: N/A; Packing: Carton, Case; RoHS: True; Series: LZ Relays; Mounting Technology: Through Hole; ComponentLink1Description: Manufacturer URL; ComponentLink1URL: http://www3.panasonic.biz/ac/ae/index.jsp; ComponentLink2Description: Datasheet; ComponentLink2URL: http://www3.panasonic.biz/ac/e_download/control/relay/power/catalog/mech_eng_lz.pdf?f_cd=300372; ComponentLink3Description: Package Specification; ComponentLink3URL: http://www3.panasonic.biz/ac/e_download/control/relay/power/catalog/mech_eng_lz.pdf?f_cd=300372
footprint PNSC-LZ-8-2880x1250x1570_V (LZ, 8-Leads, Body 28.8x12.5mm)
pins: 1, 2, 3, 4, 5, 6, 7, 8

## ALZ12B05TT
designator K?
LZ Relays, 5 V Coil Voltage, 400 mW Nominal Operating Power, -40 to 85 degC, 8-Pin LZ, Carton, Case, RoHS; Manufacturer: Panasonic; PartNumber: ALZ12B05TT; Coil Voltage: 5 V; Electrical Life: 1x10^5 (N.O.), 5x10^4 (N.C.); Max Switching Current: 16 A; Max Switching Voltage: 440 V AC; Mechanical Life(Min.operation): 1x10^7; Nominal Operating Power: 400 mW; Pb-Free: True; DatasheetVersion: 201402-T; PackageVersion: ASCTB203E, 02/2014; PackageReference: LZ-8-2880x1250x1570; PackageDescription: 8-Pin Through Hole Terminal Package, Body 28.8 x 12.5 mm; Supplier 1: Mouser; Supplier Part Number 1: N/A; Packing: Carton, Case; RoHS: True; Series: LZ Relays; Mounting Technology: Through Hole; ComponentLink1Description: Manufacturer URL; ComponentLink1URL: http://www3.panasonic.biz/ac/ae/index.jsp; ComponentLink2Description: Datasheet; ComponentLink2URL: http://www3.panasonic.biz/ac/e_download/control/relay/power/catalog/mech_eng_lz.pdf?f_cd=300372; ComponentLink3Description: Package Specification; ComponentLink3URL: http://www3.panasonic.biz/ac/e_download/control/relay/power/catalog/mech_eng_lz.pdf?f_cd=300372
footprint PNSC-LZ-8-2880x1250x1570_V (LZ, 8-Leads, Body 28.8x12.5mm)
pins: 1, 2, 3, 4, 5, 6, 7, 8

## ALZ12B9T
designator K?
LZ Relays, 9 V Coil Voltage, 400 mW Nominal Operating Power, -40 to 85 degC, 8-Pin LZ, Carton, Case, RoHS; Manufacturer: Panasonic; PartNumber: ALZ12B9T; Coil Voltage: 9 V; Electrical Life: 1x10^5 (N.O.), 5x10^4 (N.C.); Max Switching Current: 16 A; Max Switching Voltage: 440 V AC; Mechanical Life(Min.operation): 1x10^7; Nominal Operating Power: 400 mW; Pb-Free: True; DatasheetVersion: 201402-T; PackageVersion: ASCTB203E, 02/2014; PackageReference: LZ-8-2880x1250x1570; PackageDescription: 8-Pin Through Hole Terminal Package, Body 28.8 x 12.5 mm; Supplier 1: Mouser; Supplier Part Number 1: N/A; Packing: Carton, Case; RoHS: True; Series: LZ Relays; Mounting Technology: Through Hole; ComponentLink1Description: Manufacturer URL; ComponentLink1URL: http://www3.panasonic.biz/ac/ae/index.jsp; ComponentLink2Description: Datasheet; ComponentLink2URL: http://www3.panasonic.biz/ac/e_download/control/relay/power/catalog/mech_eng_lz.pdf?f_cd=300372; ComponentLink3Description: Package Specification; ComponentLink3URL: http://www3.panasonic.biz/ac/e_download/control/relay/power/catalog/mech_eng_lz.pdf?f_cd=300372
footprint PNSC-LZ-8-2880x1250x1570_V (LZ, 8-Leads, Body 28.8x12.5mm)
pins: 1, 2, 3, 4, 5, 6, 7, 8

## ALZ12B12T
designator K?
LZ Relays, 12 V Coil Voltage, 400 mW Nominal Operating Power, -40 to 85 degC, 8-Pin LZ, Carton, Case, RoHS; Manufacturer: Panasonic; PartNumber: ALZ12B12T; Coil Voltage: 12 V; Electrical Life: 1x10^5 (N.O.), 5x10^4 (N.C.); Max Switching Current: 16 A; Max Switching Voltage: 440 V AC; Mechanical Life(Min.operation): 1x10^7; Nominal Operating Power: 400 mW; Pb-Free: True; DatasheetVersion: 201402-T; PackageVersion: ASCTB203E, 02/2014; PackageReference: LZ-8-2880x1250x1570; PackageDescription: 8-Pin Through Hole Terminal Package, Body 28.8 x 12.5 mm; Packing: Carton, Case; RoHS: True; Series: LZ Relays; Mounting Technology: Through Hole; ComponentLink1Description: Manufacturer URL; ComponentLink1URL: http://www3.panasonic.biz/ac/ae/index.jsp; ComponentLink2Description: Datasheet; ComponentLink2URL: http://www3.panasonic.biz/ac/e_download/control/relay/power/catalog/mech_eng_lz.pdf?f_cd=300372; ComponentLink3Description: Package Specification; ComponentLink3URL: http://www3.panasonic.biz/ac/e_download/control/relay/power/catalog/mech_eng_lz.pdf?f_cd=300372
footprint PNSC-LZ-8-2880x1250x1570_V (LZ, 8-Leads, Body 28.8x12.5mm)
pins: 1, 2, 3, 4, 5, 6, 7, 8

## ALZ12B12TT
designator K?
LZ Relays, 12 V Coil Voltage, 400 mW Nominal Operating Power, -40 to 85 degC, 8-Pin LZ, Carton, Case, RoHS; Manufacturer: Panasonic; PartNumber: ALZ12B12TT; Coil Voltage: 12 V; Electrical Life: 1x10^5 (N.O.), 5x10^4 (N.C.); Max Switching Current: 16 A; Max Switching Voltage: 440 V AC; Mechanical Life(Min.operation): 1x10^7; Nominal Operating Power: 400 mW; Pb-Free: True; DatasheetVersion: 201402-T; PackageVersion: ASCTB203E, 02/2014; PackageReference: LZ-8-2880x1250x1570; PackageDescription: 8-Pin Through Hole Terminal Package, Body 28.8 x 12.5 mm; Packing: Carton, Case; RoHS: True; Series: LZ Relays; Mounting Technology: Through Hole; ComponentLink1Description: Manufacturer URL; ComponentLink1URL: http://www3.panasonic.biz/ac/ae/index.jsp; ComponentLink2Description: Datasheet; ComponentLink2URL: http://www3.panasonic.biz/ac/e_download/control/relay/power/catalog/mech_eng_lz.pdf?f_cd=300372; ComponentLink3Description: Package Specification; ComponentLink3URL: http://www3.panasonic.biz/ac/e_download/control/relay/power/catalog/mech_eng_lz.pdf?f_cd=300372
footprint PNSC-LZ-8-2880x1250x1570_V (LZ, 8-Leads, Body 28.8x12.5mm)
pins: 1, 2, 3, 4, 5, 6, 7, 8

## ALZ12B12TWT
designator K?
LZ Relays, 12 V Coil Voltage, 400 mW Nominal Operating Power, -40 to 85 degC, 8-Pin LZ, Carton, Case, RoHS; Manufacturer: Panasonic; PartNumber: ALZ12B12TWT; Coil Voltage: 12 V; Electrical Life: 1x10^5 (N.O.), 5x10^4 (N.C.); Max Switching Current: 16 A; Max Switching Voltage: 440 V AC; Mechanical Life(Min.operation): 1x10^7; Nominal Operating Power: 400 mW; Pb-Free: True; DatasheetVersion: 201402-T; PackageVersion: ASCTB203E, 02/2014; PackageReference: LZ-8-2880x1250x1570; PackageDescription: 8-Pin Through Hole Terminal Package, Body 28.8 x 12.5 mm; Supplier 1: Mouser; Supplier Part Number 1: N/A; Packing: Carton, Case; RoHS: True; Series: LZ Relays; Mounting Technology: Through Hole; ComponentLink1Description: Manufacturer URL; ComponentLink1URL: http://www3.panasonic.biz/ac/ae/index.jsp; ComponentLink2Description: Datasheet; ComponentLink2URL: http://www3.panasonic.biz/ac/e_download/control/relay/power/catalog/mech_eng_lz.pdf?f_cd=300372; ComponentLink3Description: Package Specification; ComponentLink3URL: http://www3.panasonic.biz/ac/e_download/control/relay/power/catalog/mech_eng_lz.pdf?f_cd=300372
footprint PNSC-LZ-8-2880x1250x1570_V (LZ, 8-Leads, Body 28.8x12.5mm)
pins: 1, 2, 3, 4, 5, 6, 7, 8

## ALZ12B12WT
designator K?
LZ Relays, 12 V Coil Voltage, 400 mW Nominal Operating Power, -40 to 85 degC, 8-Pin LZ, Carton, Case, RoHS; Manufacturer: Panasonic; PartNumber: ALZ12B12WT; Coil Voltage: 12 V; Electrical Life: 1x10^5 (N.O.), 5x10^4 (N.C.); Max Switching Current: 16 A; Max Switching Voltage: 440 V AC; Mechanical Life(Min.operation): 1x10^7; Nominal Operating Power: 400 mW; Pb-Free: True; DatasheetVersion: 201402-T; PackageVersion: ASCTB203E, 02/2014; PackageReference: LZ-8-2880x1250x1570; PackageDescription: 8-Pin Through Hole Terminal Package, Body 28.8 x 12.5 mm; Supplier 1: Mouser; Supplier Part Number 1: N/A; Packing: Carton, Case; RoHS: True; Series: LZ Relays; Mounting Technology: Through Hole; ComponentLink1Description: Manufacturer URL; ComponentLink1URL: http://www3.panasonic.biz/ac/ae/index.jsp; ComponentLink2Description: Datasheet; ComponentLink2URL: http://www3.panasonic.biz/ac/e_download/control/relay/power/catalog/mech_eng_lz.pdf?f_cd=300372; ComponentLink3Description: Package Specification; ComponentLink3URL: http://www3.panasonic.biz/ac/e_download/control/relay/power/catalog/mech_eng_lz.pdf?f_cd=300372
footprint PNSC-LZ-8-2880x1250x1570_V (LZ, 8-Leads, Body 28.8x12.5mm)
pins: 1, 2, 3, 4, 5, 6, 7, 8

## ALZ12B18T
designator K?
LZ Relays, 18 V Coil Voltage, 400 mW Nominal Operating Power, -40 to 85 degC, 8-Pin LZ, Carton, Case, RoHS; Manufacturer: Panasonic; PartNumber: ALZ12B18T; Coil Voltage: 18 V; Electrical Life: 1x10^5 (N.O.), 5x10^4 (N.C.); Max Switching Current: 16 A; Max Switching Voltage: 440 V AC; Mechanical Life(Min.operation): 1x10^7; Nominal Operating Power: 400 mW; Pb-Free: True; DatasheetVersion: 201402-T; PackageVersion: ASCTB203E, 02/2014; PackageReference: LZ-8-2880x1250x1570; PackageDescription: 8-Pin Through Hole Terminal Package, Body 28.8 x 12.5 mm; Packing: Carton, Case; RoHS: True; Series: LZ Relays; Mounting Technology: Through Hole; ComponentLink1Description: Manufacturer URL; ComponentLink1URL: http://www3.panasonic.biz/ac/ae/index.jsp; ComponentLink2Description: Datasheet; ComponentLink2URL: http://www3.panasonic.biz/ac/e_download/control/relay/power/catalog/mech_eng_lz.pdf?f_cd=300372; ComponentLink3Description: Package Specification; ComponentLink3URL: http://www3.panasonic.biz/ac/e_download/control/relay/power/catalog/mech_eng_lz.pdf?f_cd=300372
footprint PNSC-LZ-8-2880x1250x1570_V (LZ, 8-Leads, Body 28.8x12.5mm)
pins: 1, 2, 3, 4, 5, 6, 7, 8

## ALZ12B24T
designator K?
LZ Relays, 24 V Coil Voltage, 400 mW Nominal Operating Power, -40 to 85 degC, 8-Pin LZ, Carton, Case, RoHS; Manufacturer: Panasonic; PartNumber: ALZ12B24T; Coil Voltage: 24 V; Electrical Life: 1x10^5 (N.O.), 5x10^4 (N.C.); Max Switching Current: 16 A; Max Switching Voltage: 440 V AC; Mechanical Life(Min.operation): 1x10^7; Nominal Operating Power: 400 mW; Pb-Free: True; DatasheetVersion: 201402-T; PackageVersion: ASCTB203E, 02/2014; PackageReference: LZ-8-2880x1250x1570; PackageDescription: 8-Pin Through Hole Terminal Package, Body 28.8 x 12.5 mm; Supplier 1: Mouser; Supplier Part Number 1: N/A; Supplier 2: Mouser; Supplier Part Number 2: N/A; Supplier 3: Mouser; Supplier Part Number 3: N/A; Packing: Carton, Case; RoHS: True; Series: LZ Relays; Mounting Technology: Through Hole; ComponentLink1Description: Manufacturer URL; ComponentLink1URL: http://www3.panasonic.biz/ac/ae/index.jsp; ComponentLink2Description: Datasheet; ComponentLink2URL: http://www3.panasonic.biz/ac/e_download/control/relay/power/catalog/mech_eng_lz.pdf?f_cd=300372; ComponentLink3Description: Package Specification; ComponentLink3URL: http://www3.panasonic.biz/ac/e_download/control/relay/power/catalog/mech_eng_lz.pdf?f_cd=300372
footprint PNSC-LZ-8-2880x1250x1570_V (LZ, 8-Leads, Body 28.8x12.5mm)
pins: 1, 2, 3, 4, 5, 6, 7, 8

## ALZ12B24TWT
designator K?
LZ Relays, 24 V Coil Voltage, 400 mW Nominal Operating Power, -40 to 85 degC, 8-Pin LZ, Carton, Case, RoHS; Manufacturer: Panasonic; PartNumber: ALZ12B24TWT; Coil Voltage: 24 V; Electrical Life: 1x10^5 (N.O.), 5x10^4 (N.C.); Max Switching Current: 16 A; Max Switching Voltage: 440 V AC; Mechanical Life(Min.operation): 1x10^7; Nominal Operating Power: 400 mW; Pb-Free: True; DatasheetVersion: 201402-T; PackageVersion: ASCTB203E, 02/2014; PackageReference: LZ-8-2880x1250x1570; PackageDescription: 8-Pin Through Hole Terminal Package, Body 28.8 x 12.5 mm; Supplier 1: Mouser; Supplier Part Number 1: N/A; Packing: Carton, Case; RoHS: True; Series: LZ Relays; Mounting Technology: Through Hole; ComponentLink1Description: Manufacturer URL; ComponentLink1URL: http://www3.panasonic.biz/ac/ae/index.jsp; ComponentLink2Description: Datasheet; ComponentLink2URL: http://www3.panasonic.biz/ac/e_download/control/relay/power/catalog/mech_eng_lz.pdf?f_cd=300372; ComponentLink3Description: Package Specification; ComponentLink3URL: http://www3.panasonic.biz/ac/e_download/control/relay/power/catalog/mech_eng_lz.pdf?f_cd=300372
footprint PNSC-LZ-8-2880x1250x1570_V (LZ, 8-Leads, Body 28.8x12.5mm)
pins: 1, 2, 3, 4, 5, 6, 7, 8

## ALZ12B48T
designator K?
LZ Relays, 48 V Coil Voltage, 400 mW Nominal Operating Power, -40 to 85 degC, 8-Pin LZ, Carton, Case, RoHS; Manufacturer: Panasonic; PartNumber: ALZ12B48T; Coil Voltage: 48 V; Electrical Life: 1x10^5 (N.O.), 5x10^4 (N.C.); Max Switching Current: 16 A; Max Switching Voltage: 440 V AC; Mechanical Life(Min.operation): 1x10^7; Nominal Operating Power: 400 mW; Pb-Free: True; DatasheetVersion: 201202-T; PackageVersion: ASCTB203E, 02/2014; PackageReference: LZ-8-2880x1250x1570; PackageDescription: 8-Pin Through Hole Terminal Package, Body 28.8 x 12.5 mm; Packing: Carton, Case; RoHS: True; Series: LZ Relays; Mounting Technology: Through Hole; ComponentLink1Description: Manufacturer URL; ComponentLink1URL: http://www3.panasonic.biz/ac/ae/index.jsp; ComponentLink2Description: Datasheet; ComponentLink2URL: http://www.electricautomationnetwork.com/en/PA/panasonic/ALZ12B48T; ComponentLink3Description: Package Specification; ComponentLink3URL: http://www3.panasonic.biz/ac/e_download/control/relay/power/catalog/mech_eng_lz.pdf?f_cd=300372
footprint PNSC-LZ-8-2880x1250x1570_V (LZ, 8-Leads, Body 28.8x12.5mm)
pins: 1, 2, 3, 4, 5, 6, 7, 8

## ALZ12F5T
designator K?
LZ Relays, 5 V Coil Voltage, 400 mW Nominal Operating Power, -40 to 85 degC, 8-Pin LZ, Carton, Case, RoHS; Manufacturer: Panasonic; PartNumber: ALZ12F5T; Coil Voltage: 5 V; Electrical Life: 1x10^5 (N.O.), 5x10^4 (N.C.); Max Switching Current: 16 A; Max Switching Voltage: 440 V AC; Mechanical Life(Min.operation): 1x10^7; Nominal Operating Power: 400 mW; Pb-Free: True; DatasheetVersion: 201402-T; PackageVersion: ASCTB203E, 02/2014; PackageReference: LZ-8-2880x1250x1570; PackageDescription: 8-Pin Through Hole Terminal Package, Body 28.8 x 12.5 mm; Packing: Carton, Case; RoHS: True; Series: LZ Relays; Mounting Technology: Through Hole; ComponentLink1Description: Manufacturer URL; ComponentLink1URL: http://www3.panasonic.biz/ac/ae/index.jsp; ComponentLink2Description: Datasheet; ComponentLink2URL: http://www3.panasonic.biz/ac/e_download/control/relay/power/catalog/mech_eng_lz.pdf?f_cd=300372; ComponentLink3Description: Package Specification; ComponentLink3URL: http://www3.panasonic.biz/ac/e_download/control/relay/power/catalog/mech_eng_lz.pdf?f_cd=300372
footprint PNSC-LZ-8-2880x1250x1570_V (LZ, 8-Leads, Body 28.8x12.5mm)
pins: 1, 2, 3, 4, 5, 6, 7, 8

## ALZ12F5TT
designator K?
LZ Relays, 5 V Coil Voltage, 400 mW Nominal Operating Power, -40 to 85 degC, 8-Pin LZ, Carton, Case, RoHS; Manufacturer: Panasonic; PartNumber: ALZ12F5TT; Coil Voltage: 5 V; Electrical Life: 1x10^5 (N.O.), 5x10^4 (N.C.); Max Switching Current: 16 A; Max Switching Voltage: 440 V AC; Mechanical Life(Min.operation): 1x10^7; Nominal Operating Power: 400 mW; Pb-Free: True; DatasheetVersion: 201402-T; PackageVersion: ASCTB203E, 02/2014; PackageReference: LZ-8-2880x1250x1570; PackageDescription: 8-Pin Through Hole Terminal Package, Body 28.8 x 12.5 mm; Supplier 1: Mouser; Supplier Part Number 1: N/A; Packing: Carton, Case; RoHS: True; Series: LZ Relays; Mounting Technology: Through Hole; ComponentLink1Description: Manufacturer URL; ComponentLink1URL: http://www3.panasonic.biz/ac/ae/index.jsp; ComponentLink2Description: Datasheet; ComponentLink2URL: http://www3.panasonic.biz/ac/e_download/control/relay/power/catalog/mech_eng_lz.pdf?f_cd=300372; ComponentLink3Description: Package Specification; ComponentLink3URL: http://www3.panasonic.biz/ac/e_download/control/relay/power/catalog/mech_eng_lz.pdf?f_cd=300372
footprint PNSC-LZ-8-2880x1250x1570_V (LZ, 8-Leads, Body 28.8x12.5mm)
pins: 1, 2, 3, 4, 5, 6, 7, 8

## ALZ12F5WT
designator K?
LZ Relays, 5 V Coil Voltage, 400 mW Nominal Operating Power, -40 to 85 degC, 8-Pin LZ, Carton, Case, RoHS; Manufacturer: Panasonic; PartNumber: ALZ12F5WT; Coil Voltage: 5 V; Electrical Life: 1x10^5 (N.O.), 5x10^4 (N.C.); Max Switching Current: 16 A; Max Switching Voltage: 440 V AC; Mechanical Life(Min.operation): 1x10^7; Nominal Operating Power: 400 mW; Pb-Free: True; DatasheetVersion: 201402-T; PackageVersion: ASCTB203E, 02/2014; PackageReference: LZ-8-2880x1250x1570; PackageDescription: 8-Pin Through Hole Terminal Package, Body 28.8 x 12.5 mm; Supplier 1: Mouser; Supplier Part Number 1: N/A; Packing: Carton, Case; RoHS: True; Series: LZ Relays; Mounting Technology: Through Hole; ComponentLink1Description: Manufacturer URL; ComponentLink1URL: http://www3.panasonic.biz/ac/ae/index.jsp; ComponentLink2Description: Datasheet; ComponentLink2URL: http://www3.panasonic.biz/ac/e_download/control/relay/power/catalog/mech_eng_lz.pdf?f_cd=300372; ComponentLink3Description: Package Specification; ComponentLink3URL: http://www3.panasonic.biz/ac/e_download/control/relay/power/catalog/mech_eng_lz.pdf?f_cd=300372
footprint PNSC-LZ-8-2880x1250x1570_V (LZ, 8-Leads, Body 28.8x12.5mm)
pins: 1, 2, 3, 4, 5, 6, 7, 8

## ALZ12F9T
designator K?
LZ Relays, 9 V Coil Voltage, 400 mW Nominal Operating Power, -40 to 85 degC, 8-Pin LZ, Carton, Case, RoHS; Manufacturer: Panasonic; PartNumber: ALZ12F9T; Coil Voltage: 9 V; Electrical Life: 1x10^5 (N.O.), 5x10^4 (N.C.); Max Switching Current: 16 A; Max Switching Voltage: 440 V AC; Mechanical Life(Min.operation): 1x10^7; Nominal Operating Power: 400 mW; Pb-Free: True; DatasheetVersion: 201402-T; PackageVersion: ASCTB203E, 02/2014; PackageReference: LZ-8-2880x1250x1570; PackageDescription: 8-Pin Through Hole Terminal Package, Body 28.8 x 12.5 mm; Supplier 1: Mouser; Supplier Part Number 1: N/A; Packing: Carton, Case; RoHS: True; Series: LZ Relays; Mounting Technology: Through Hole; ComponentLink1Description: Manufacturer URL; ComponentLink1URL: http://www3.panasonic.biz/ac/ae/index.jsp; ComponentLink2Description: Datasheet; ComponentLink2URL: http://www3.panasonic.biz/ac/e_download/control/relay/power/catalog/mech_eng_lz.pdf?f_cd=300372; ComponentLink3Description: Package Specification; ComponentLink3URL: http://www3.panasonic.biz/ac/e_download/control/relay/power/catalog/mech_eng_lz.pdf?f_cd=300372
footprint PNSC-LZ-8-2880x1250x1570_V (LZ, 8-Leads, Body 28.8x12.5mm)
pins: 1, 2, 3 NO, 4, 5, 6, 7, 8

## ALZ12F12T
designator K?
LZ Relays, 12 V Coil Voltage, 400 mW Nominal Operating Power, -40 to 85 degC, 8-Pin LZ, Carton, Case, RoHS; Manufacturer: Panasonic; PartNumber: ALZ12F12T; Coil Voltage: 12 V; Electrical Life: 1x10^5 (N.O.), 5x10^4 (N.C.); Max Switching Current: 16 A; Max Switching Voltage: 440 V AC; Mechanical Life(Min.operation): 1x10^7; Nominal Operating Power: 400 mW; Pb-Free: True; DatasheetVersion: 201402-T; PackageVersion: ASCTB203E, 02/2014; PackageReference: LZ-8-2880x1250x1570; PackageDescription: 8-Pin Through Hole Terminal Package, Body 28.8 x 12.5 mm; Supplier 1: Mouser; Supplier Part Number 1: N/A; Packing: Carton, Case; RoHS: True; Series: LZ Relays; Mounting Technology: Through Hole; ComponentLink1Description: Manufacturer URL; ComponentLink1URL: http://www3.panasonic.biz/ac/ae/index.jsp; ComponentLink2Description: Datasheet; ComponentLink2URL: http://www3.panasonic.biz/ac/e_download/control/relay/power/catalog/mech_eng_lz.pdf?f_cd=300372; ComponentLink3Description: Package Specification; ComponentLink3URL: http://www3.panasonic.biz/ac/e_download/control/relay/power/catalog/mech_eng_lz.pdf?f_cd=300372
footprint PNSC-LZ-8-2880x1250x1570_V (LZ, 8-Leads, Body 28.8x12.5mm)
pins: 1, 2, 3, 4, 5, 6, 7, 8

## ALZ12F12TT
designator K?
LZ Relays, 12 V Coil Voltage, 400 mW Nominal Operating Power, -40 to 85 degC, 8-Pin LZ, Carton, Case, RoHS; Manufacturer: Panasonic; PartNumber: ALZ12F12TT; Coil Voltage: 12 V; Electrical Life: 1x10^5 (N.O.), 5x10^4 (N.C.); Max Switching Current: 16 A; Max Switching Voltage: 440 V AC; Mechanical Life(Min.operation): 1x10^7; Nominal Operating Power: 400 mW; Pb-Free: True; DatasheetVersion: 201402-T; PackageVersion: ASCTB203E, 02/2014; PackageReference: LZ-8-2880x1250x1570; PackageDescription: 8-Pin Through Hole Terminal Package, Body 28.8 x 12.5 mm; Packing: Carton, Case; RoHS: True; Series: LZ Relays; Mounting Technology: Through Hole; ComponentLink1Description: Manufacturer URL; ComponentLink1URL: http://www3.panasonic.biz/ac/ae/index.jsp; ComponentLink2Description: Datasheet; ComponentLink2URL: http://www3.panasonic.biz/ac/e_download/control/relay/power/catalog/mech_eng_lz.pdf?f_cd=300372; ComponentLink3Description: Package Specification; ComponentLink3URL: http://www3.panasonic.biz/ac/e_download/control/relay/power/catalog/mech_eng_lz.pdf?f_cd=300372
footprint PNSC-LZ-8-2880x1250x1570_V (LZ, 8-Leads, Body 28.8x12.5mm)
pins: 1, 2, 3, 4, 5, 6, 7, 8

## ALZ12F18T
designator K?
LZ Relays, 18 V Coil Voltage, 400 mW Nominal Operating Power, -40 to 85 degC, 8-Pin LZ, Carton, Case, RoHS; Manufacturer: Panasonic; PartNumber: ALZ12F18T; Coil Voltage: 18 V; Electrical Life: 1x10^5 (N.O.), 5x10^4 (N.C.); Max Switching Current: 16 A; Max Switching Voltage: 440 V AC; Mechanical Life(Min.operation): 1x10^7; Nominal Operating Power: 400 mW; Pb-Free: True; DatasheetVersion: 201402-T; PackageVersion: ASCTB203E, 02/2014; PackageReference: LZ-8-2880x1250x1570; PackageDescription: 8-Pin Through Hole Terminal Package, Body 28.8 x 12.5 mm; Supplier 1: Mouser; Supplier Part Number 1: N/A; Packing: Carton, Case; RoHS: True; Series: LZ Relays; Mounting Technology: Through Hole; ComponentLink1Description: Manufacturer URL; ComponentLink1URL: http://www3.panasonic.biz/ac/ae/index.jsp; ComponentLink2Description: Datasheet; ComponentLink2URL: http://www3.panasonic.biz/ac/e_download/control/relay/power/catalog/mech_eng_lz.pdf?f_cd=300372; ComponentLink3Description: Package Specification; ComponentLink3URL: http://www3.panasonic.biz/ac/e_download/control/relay/power/catalog/mech_eng_lz.pdf?f_cd=300372
footprint PNSC-LZ-8-2880x1250x1570_V (LZ, 8-Leads, Body 28.8x12.5mm)
pins: 1, 2, 3 NO, 4, 5, 6, 7, 8

## ALZ12F24T
designator K?
LZ Relays, 24 V Coil Voltage, 400 mW Nominal Operating Power, -40 to 85 degC, 8-Pin LZ, Carton, Case, RoHS; Manufacturer: Panasonic; PartNumber: ALZ12F24T; Coil Voltage: 24 V; Electrical Life: 1x10^5 (N.O.), 5x10^4 (N.C.); Max Switching Current: 16 A; Max Switching Voltage: 440 V AC; Mechanical Life(Min.operation): 1x10^7; Nominal Operating Power: 400 mW; Pb-Free: True; DatasheetVersion: 201402-T; PackageVersion: ASCTB203E, 02/2014; PackageReference: LZ-8-2880x1250x1570; PackageDescription: 8-Pin Through Hole Terminal Package, Body 28.8 x 12.5 mm; Supplier 1: Mouser; Supplier Part Number 1: N/A; Packing: Carton, Case; RoHS: True; Series: LZ Relays; Mounting Technology: Through Hole; ComponentLink1Description: Manufacturer URL; ComponentLink1URL: http://www3.panasonic.biz/ac/ae/index.jsp; ComponentLink2Description: Datasheet; ComponentLink2URL: http://www3.panasonic.biz/ac/e_download/control/relay/power/catalog/mech_eng_lz.pdf?f_cd=300372; ComponentLink3Description: Package Specification; ComponentLink3URL: http://www3.panasonic.biz/ac/e_download/control/relay/power/catalog/mech_eng_lz.pdf?f_cd=300372
footprint PNSC-LZ-8-2880x1250x1570_V (LZ, 8-Leads, Body 28.8x12.5mm)
pins: 1, 2, 3, 4, 5, 6, 7, 8